# Altium footprint library ESP32-C3-WROOM-02-N4.PcbLib: 1 footprints
Each footprint in its own frame and in the unit in brackets; x right, y up, seen from the top. Pads: shape width x height; smd on the part's side, far side on the other; paste and mask are expansions set on the pad; w line width, h text height; cw(c..) or ccw(c..) is an arc to the next point about the centre after c.
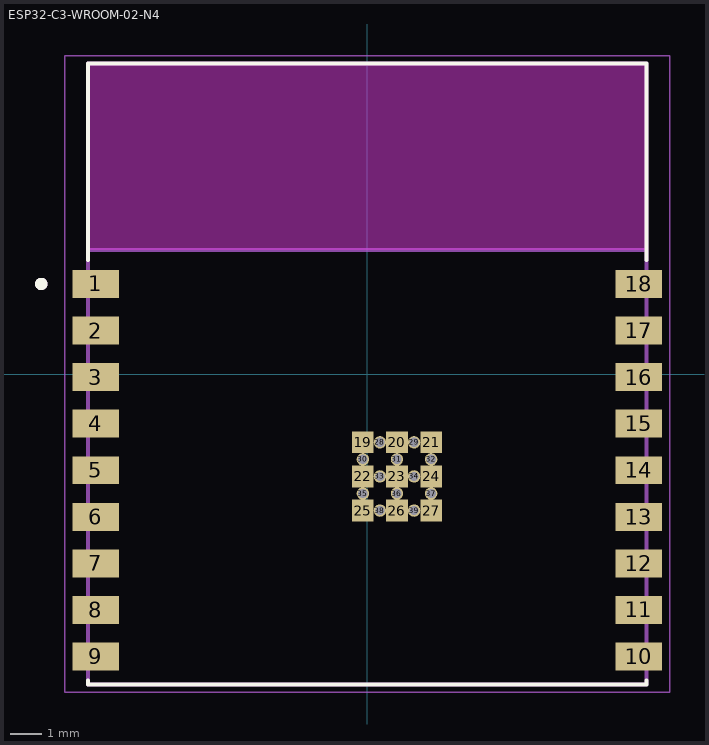
[diagram p0: the footprint, top view; thin cyan lines are the x and y axes]

## ESP32-C3-WROOM-02-N4 [mm]
pads (39):
  rect 1.5x0.9 smd: 1(-8.75,2.9) 2(-8.75,1.4) 3(-8.75,-0.1) 4(-8.75,-1.6) 5(-8.75,-3.1) 6(-8.75,-4.6) 7(-8.75,-6.1) 8(-8.75,-7.6) 9(-8.75,-9.1) 10(8.75,-9.1) 11(8.75,-7.6) 12(8.75,-6.1) 13(8.75,-4.6) 14(8.75,-3.1) 15(8.75,-1.6) 16(8.75,-0.1) 17(8.75,1.4) 18(8.75,2.9)
  rect 0.7x0.7 smd: 19(-0.14,-2.2) 20(0.96,-2.2) 21(2.06,-2.2) 22(-0.14,-3.3) 23(0.96,-3.3) 24(2.06,-3.3) 25(-0.14,-4.4) 26(0.96,-4.4) 27(2.06,-4.4)
  round 0.4 hole 0.3 mask+0: 28(0.41,-2.2) 29(1.51,-2.2) 30(-0.14,-2.75) 31(0.96,-2.75) 32(2.06,-2.75) 33(0.41,-3.3) 34(1.51,-3.3) 35(-0.14,-3.85) 36(0.96,-3.85) 37(2.06,-3.85) 38(0.41,-4.4) 39(1.51,-4.4)
Top Overlay:
  circle w0.2: c-10.5,2.9 r0.1
  lines w0.127: -9,-9.87 -9,-10 9,-10 9,-9.87 ; -9,3.67 -9,10 9,10 9,3.67
Keep-Out Layer:
  region: 9,4 -9,4 -9,10 9,10
  region: 9,4 -9,4 -9,10 9,10
Mechanical 13:
  circle w0.2: c-10.5,2.9 r0.1
  lines w0.127: -9,4 9,4 ; -9,4 -9,-10 9,-10 9,4 ; -9,4 -9,10 9,10 9,4
Mechanical 15:
  lines w0.05: -9.75,-10.25 9.75,-10.25 9.75,10.25 -9.75,10.25 -9.75,-10.25
3D body "step_temp.STEP": height 3.35, standoff 0, extent -9,-10 9,10